# Altium schematic symbol library ABRACOM_ASEM_Oscillator.SchLib: 1 symbol
Pins are listed as number, name and electrical type; pins without a type are passive.

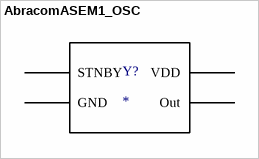
[diagram p0: symbol AbracomASEM1_OSC]

## AbracomASEM1_OSC
designator Y?
footprint AbraconASEM1
pins: 1 STNBY, 2 GND, 3 Out, 4 VDD